# EAGLE library part ALD1117 (library meng)
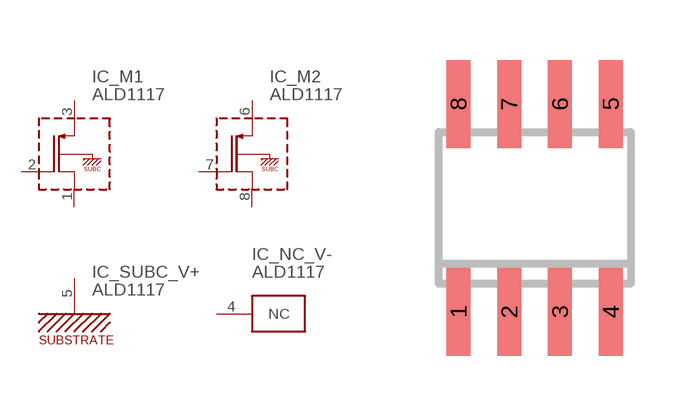
[diagram p19: symbol with the pads of SO08; footprint SO08]

Designator prefix IC; gates _M1=SMALL_SIGNAL_PMOS _M2=SMALL_SIGNAL_PMOS _SUBC_V+=SUBC _NC_V-=NC

## ALD1117 (VALUE: ALD1117)  [SO08]
1  _M1:D
2  _M1:G
3  _M1:S
4  _NC_V-:NC
5  _SUBC_V+:SUBC
6  _M2:S
7  _M2:G
8  _M2:D

## Footprint SO08 (pad centres in mm)
Small Outline Package 8 NS Package M08A
smd 0.6 x 2.2: 1 -1.905,-2.6; 2 -0.635,-2.6; 3 0.635,-2.6; 4 1.905,-2.6; 5 1.905,2.6; 6 0.635,2.6; 7 -0.635,2.6; 8 -1.905,2.6